# Altium schematic symbol library микросхемы аналоговые.SchLib: 54 symbols
Pins are listed as number, name and electrical type; pins without a type are passive.

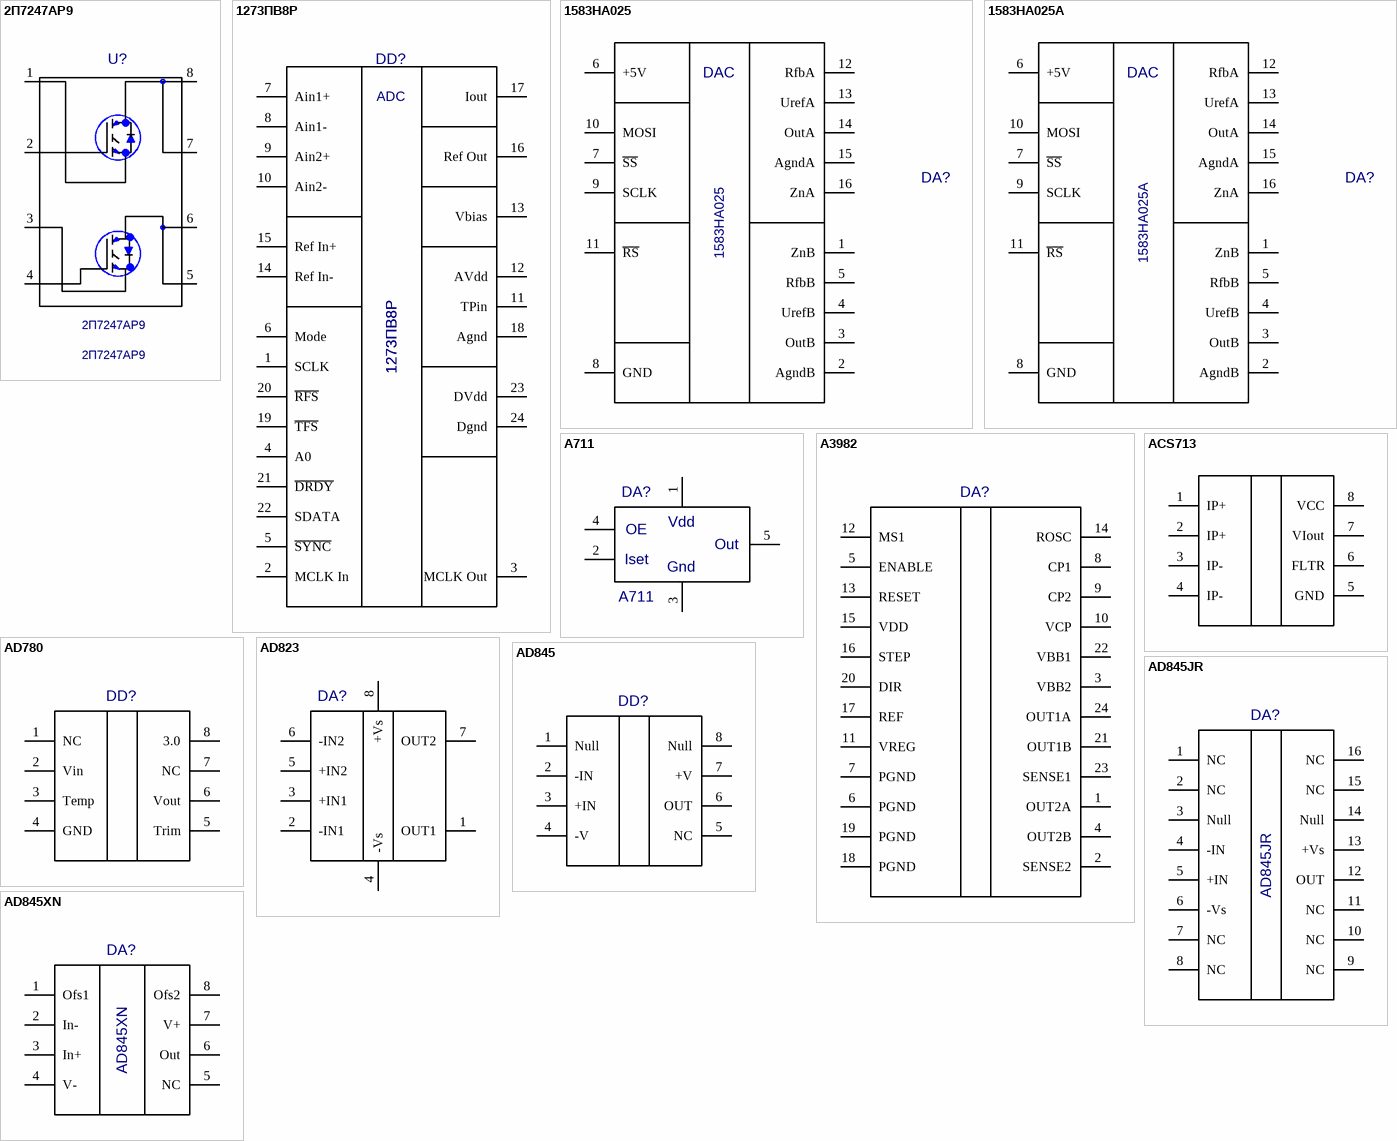
[diagram p0: symbols 2П7247АР9 to AD845XN]

## 2П7247АР9
designator U?
Value: 2П7247АР9
footprint 4320.8-А
pins: 1 S, 2 G, 3 S, 4 G, 5 D, 6 D, 7 D, 8 D

## 1273ПВ8Р
designator DD?
24-х разрядный «сигма – дельта» АЦП с однополярным (положительным) диапазоном входного аналогового сигнала. Аналог AD7710ARZ- Число разрядов  24 бит; / - Тактовая частота  0,4÷10; / - Напряжение питания цифровой части  5,0±5%; / - Положительное напряжение питания аналоговой части / (UCCA+) 5,0±5%; / - Нелинейность  -0,005÷ +0,005%; / - Напряжение смещения ucca +/2 В; Part Number: 1273ПВ8Р; Value: 1273ПВ8Р
footprint 2120.24–11
pins: 1 SCLK, 2 MCLK In, 3 MCLK Out, 4 A0, 5 ~{SYNC}, 6 Mode, 7 Ain1+, 8 Ain1-, 9 Ain2+, 10 Ain2-, 11 TPin, 12 AVdd, 13 Vbias, 14 Ref In-, 15 Ref In+, 16 Ref Out, 17 Iout, 18 Agnd, 19 ~{TFS}, 20 ~{RFS}, 21 ~{DRDY}, 22 SDATA, 23 DVdd, 24 Dgnd
text: ADC

## 1583НА025
designator DA?
Двухканальный 12‑разрядный / умножающий ЦАП / с токовым выходом / и последовательным интерфейсом / • Последовательный порт совместим со стандартами SPI / • Полная шкала выходного тока 2 мА ±20 %, при опорном напряжении UREF = 10 В / • Установка в начальную или среднюю точку шкалы при включении питания; Value: 1583НА025
footprint Н04.16-1В (CFP, 16-Leads, Body 7,80x7,40mm (max), Pitch 1,00mm, IPC Low Density)
pins: 1 ZnB, 2 AgndB, 3 OutB, 4 UrefB, 5 RfbB, 6 +5V, 7 ~{SS}, 8 GND, 9 SCLK, 10 MOSI, 11 ~{RS}, 12 RfbA, 13 UrefA, 14 OutA, 15 AgndA, 16 ZnA
text: DAC

## 1583НА025А
designator DA?
Двухканальный 12‑разрядный / умножающий ЦАП / с токовым выходом / и последовательным интерфейсом / • Последовательный порт совместим со стандартами SPI / • Полная шкала выходного тока 2 мА ±20 %, при опорном напряжении UREF = 10 В / • Установка в начальную или среднюю точку шкалы при включении питания; Value: 1583НА025А
footprint 5119.16-А (16 выв. корпус (QFN-16))
pins: 1 ZnB, 2 AgndB, 3 OutB, 4 UrefB, 5 RfbB, 6 +5V, 7 ~{SS}, 8 GND, 9 SCLK, 10 MOSI, 11 ~{RS}, 12 RfbA, 13 UrefA, 14 OutA, 15 AgndA, 16 ZnA
text: DAC

## A711
designator DA?
Value: *
footprint TO-220-5L
pins: 1, 2, 3, 4, 5
text: Vdd; OE; Out; Iset; Gnd

## A3982
designator DA?  (value not drawn)
Value: *
footprint SOL24
pins: 1 OUT2A, 2 SENSE2, 3 VBB2, 4 OUT2B, 5 ENABLE, 6 PGND, 7 PGND, 8 CP1, 9 CP2, 10 VCP, 11 VREG, 12 MS1, 13 RESET, 14 ROSC, 15 VDD, 16 STEP, 17 REF, 18 PGND, 19 PGND, 20 DIR, 21 OUT1B, 22 VBB1, 23 SENSE1, 24 OUT1A

## ACS713
designator DA?  (value not drawn)
Value: *
footprint SO8
pins: 1 IP+, 2 IP+, 3 IP-, 4 IP-, 5 GND, 6 FLTR, 7 VIout, 8 VCC

## AD780
designator DD?  (value not drawn)
Value: *
footprint SO8
pins: 1 NC, 2 Vin, 3 Temp, 4 GND, 5 Trim, 6 Vout, 7 NC, 8 3.0

## AD823
designator DA?  (value not drawn)
Value: *
footprint SO8
pins: 1 OUT1, 2 -IN1, 3 +IN1, 4 -Vs, 5 +IN2, 6 -IN2, 7 OUT2, 8 +Vs

## AD845
designator DD?  (value not drawn)
Value: *
footprint DIP8
pins: 1 Null, 2 -IN, 3 +IN, 4 -V, 5 NC, 6 OUT, 7 +V, 8 Null

## AD845JR
designator DA?
Value: *
footprint SOL16
pins: 1 NC, 2 NC, 3 Null, 4 -IN, 5 +IN, 6 -Vs, 7 NC, 8 NC, 9 NC, 10 NC, 11 NC, 12 OUT, 13 +Vs, 14 Null, 15 NC, 16 NC

## AD845XN
designator DA?
Value: {Value}
footprint DIP8
pins: 1 Ofs1, 2 In-, 3 In+, 4 V-, 5 NC, 6 Out, 7 V+, 8 Ofs2

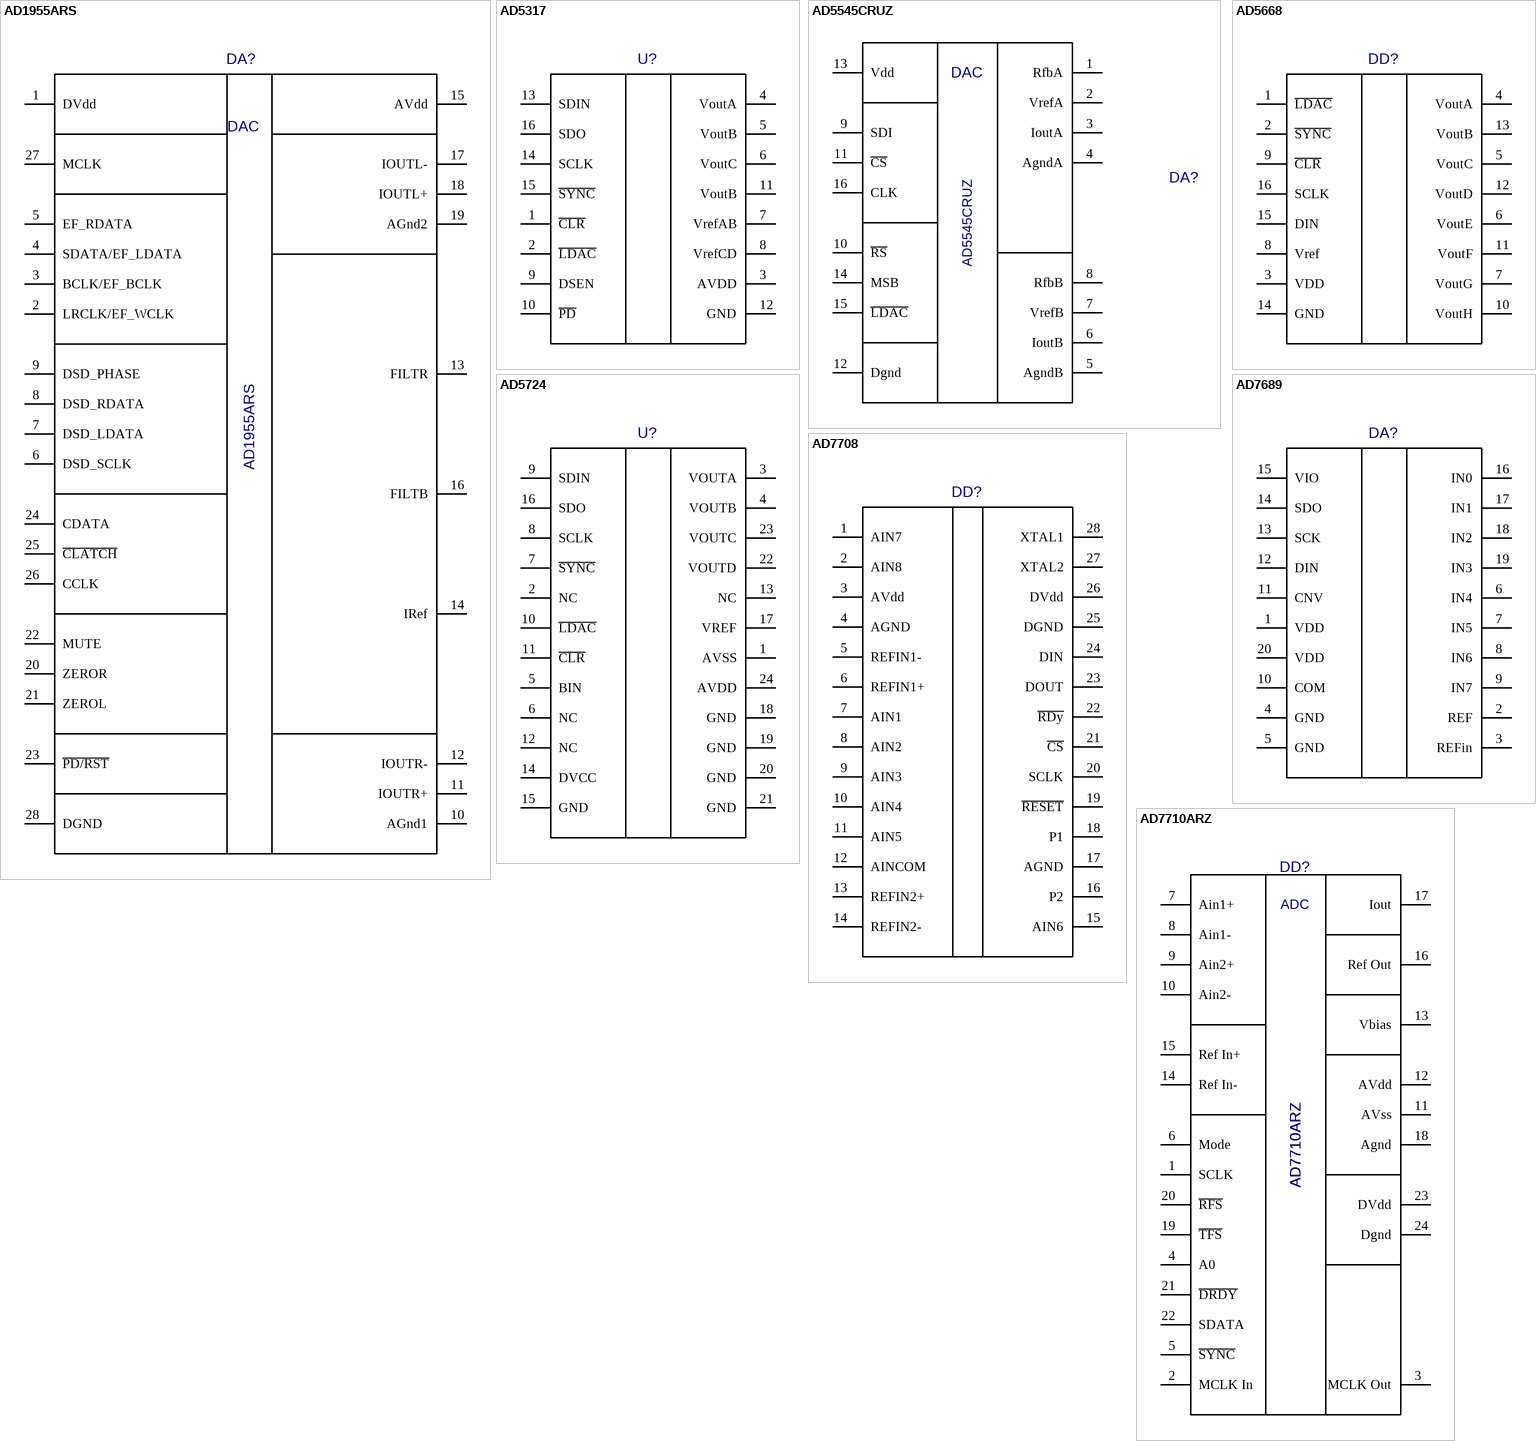
[diagram p1: symbols AD1955ARS to AD7710ARZ]

## AD1955ARS
designator DA?
Value: AD1955ARS
footprint SSOP28
pins: 1 DVdd, 2 LRCLK/EF_WCLK, 3 BCLK/EF_BCLK, 4 SDATA/EF_LDATA, 5 EF_RDATA, 6 DSD_SCLK, 7 DSD_LDATA, 8 DSD_RDATA, 9 DSD_PHASE, 10 AGnd1, 11 IOUTR+, 12 IOUTR-, 13 FILTR, 14 IRef, 15 AVdd, 16 FILTB, 17 IOUTL-, 18 IOUTL+, 19 AGnd2, 20 ZEROR, 21 ZEROL, 22 MUTE, 23 ~{PD/RST}, 24 CDATA, 25 ~{CLATCH}, 26 CCLK, 27 MCLK, 28 DGND
text: DAC

## AD5317
designator U?  (value not drawn)
Value: *
pins: 1 ~{CLR}, 2 ~{LDAC}, 3 AVDD, 4 VoutA, 5 VoutB, 6 VoutC, 7 VrefAB, 8 VrefCD, 9 DSEN, 10 ~{PD}, 11 VoutB, 12 GND, 13 SDIN, 14 SCLK, 15 ~{SYNC}, 16 SDO

## AD5545CRUZ
designator DA?
Value: AD5545CRUZ
footprint TSSOP16
pins: 1 RfbA, 2 VrefA, 3 IoutA, 4 AgndA, 5 AgndB, 6 IoutB, 7 VrefB, 8 RfbB, 9 SDI, 10 ~{RS}, 11 ~{CS}, 12 Dgnd, 13 Vdd, 14 MSB, 15 ~{LDAC}, 16 CLK
text: DAC

## AD5668
designator DD?  (value not drawn)
Value: *
footprint TSSOP16
pins: 1 ~{LDAC}, 2 ~{SYNC}, 3 VDD, 4 VoutA, 5 VoutC, 6 VoutE, 7 VoutG, 8 Vref, 9 ~{CLR}, 10 VoutH, 11 VoutF, 12 VoutD, 13 VoutB, 14 GND, 15 DIN, 16 SCLK

## AD5724
designator U?  (value not drawn)
Value: *
footprint SSOP24
pins: 1 AVSS, 2 NC, 3 VOUTA, 4 VOUTB, 5 BIN, 6 NC, 7 ~{SYNC}, 8 SCLK, 9 SDIN, 10 ~{LDAC}, 11 ~{CLR}, 12 NC, 13 NC, 14 DVCC, 15 GND, 16 SDO, 17 VREF, 18 GND, 19 GND, 20 GND, 21 GND, 22 VOUTD, 23 VOUTC, 24 AVDD

## AD7689
designator DA?  (value not drawn)
Value: *
footprint QFN20
pins: 1 VDD, 2 REF, 3 REFin, 4 GND, 5 GND, 6 IN4, 7 IN5, 8 IN6, 9 IN7, 10 COM, 11 CNV, 12 DIN, 13 SCK, 14 SDO, 15 VIO, 16 IN0, 17 IN1, 18 IN2, 19 IN3, 20 VDD, 21 hidden

## AD7708
designator DD?  (value not drawn)
Value: *
footprint SOL28
pins: 1 AIN7, 2 AIN8, 3 AVdd, 4 AGND, 5 REFIN1-, 6 REFIN1+, 7 AIN1, 8 AIN2, 9 AIN3, 10 AIN4, 11 AIN5, 12 AINCOM, 13 REFIN2+, 14 REFIN2-, 15 AIN6, 16 P2, 17 AGND, 18 P1, 19 ~{RESET}, 20 SCLK, 21 ~{CS}, 22 ~{RDy}, 23 DOUT, 24 DIN, 25 DGND, 26 DVdd, 27 XTAL2, 28 XTAL1

## AD7710ARZ
designator DD?
Charge Balancing ADC / 24 Bits, No Missing Codes / 0.0015% Nonlinearity / 2-Channel Programmable Gain Front End / Gains from 1 to 128 / Differential Inputs; Part Number: AD7710ARZ; Value: AD7710ARZ
footprint SOL24
pins: 1 SCLK, 2 MCLK In, 3 MCLK Out, 4 A0, 5 ~{SYNC}, 6 Mode, 7 Ain1+, 8 Ain1-, 9 Ain2+, 10 Ain2-, 11 AVss, 12 AVdd, 13 Vbias, 14 Ref In-, 15 Ref In+, 16 Ref Out, 17 Iout, 18 Agnd, 19 ~{TFS}, 20 ~{RFS}, 21 ~{DRDY}, 22 SDATA, 23 DVdd, 24 Dgnd
text: ADC

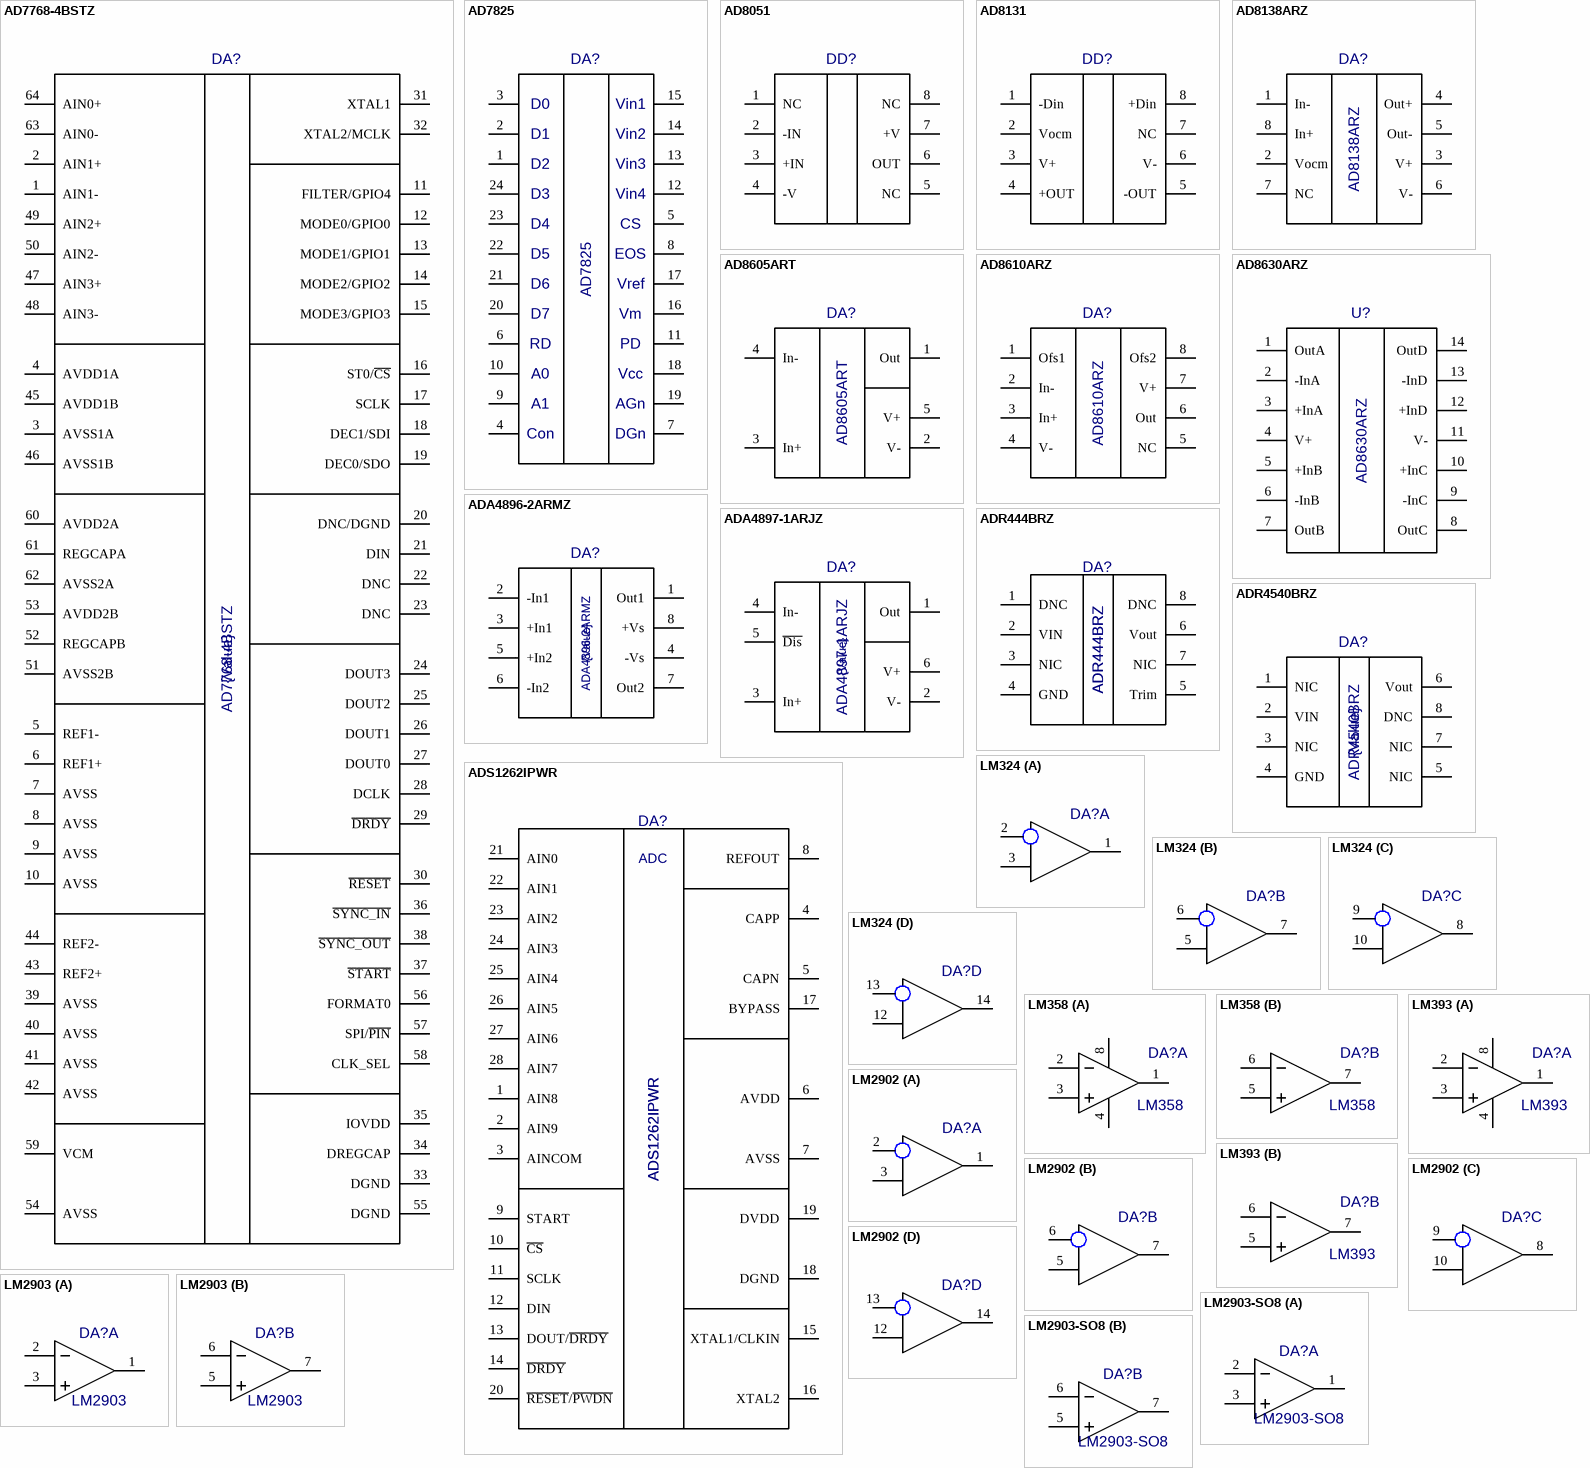
[diagram p2: symbols AD7768-4BSTZ to LM2903-SO8]

## AD7768-4BSTZ
designator DA?  value {Value}
footprint LQFP64
pins: 1 AIN1-, 2 AIN1+, 3 AVSS1A, 4 AVDD1A, 5 REF1-, 6 REF1+, 7 AVSS, 8 AVSS, 9 AVSS, 10 AVSS, 11 FILTER/GPIO4, 12 MODE0/GPIO0, 13 MODE1/GPIO1, 14 MODE2/GPIO2, 15 MODE3/GPIO3, 16 ST0/~{CS}, 17 SCLK, 18 DEC1/SDI, 19 DEC0/SDO, 20 DNC/DGND, 21 DIN, 22 DNC, 23 DNC, 24 DOUT3, 25 DOUT2, 26 DOUT1, 27 DOUT0, 28 DCLK, 29 ~{DRDY}, 30 ~{RESET}, 31 XTAL1, 32 XTAL2/MCLK, 33 DGND, 34 DREGCAP, 35 IOVDD, 36 ~{SYNC_IN}, 37 ~{START}, 38 ~{SYNC_OUT}, 39 AVSS, 40 AVSS, 41 AVSS, 42 AVSS, 43 REF2+, 44 REF2-, 45 AVDD1B, 46 AVSS1B, 47 AIN3+, 48 AIN3-, 49 AIN2+, 50 AIN2-, 51 AVSS2B, 52 REGCAPB, 53 AVDD2B, 54 AVSS, 55 DGND, 56 FORMAT0, 57 SPI/~{PIN}, 58 CLK_SEL, 59 VCM, 60 AVDD2A, 61 REGCAPA, 62 AVSS2A, 63 AIN0-, 64 AIN0+

## AD7825
designator DA?
Value: *
footprint DIP24
pins: 1 D2, 2 D1, 3 D0, 4 CON, 5 CS, 6 RD, 7 DGND (power), 8 EOS, 9 A1, 10 A0, 11 PD, 12 VIN4, 13 VIN3, 14 VIN2, 15 VIN1, 16 VMID, 17 VREF, 18 +5V (power), 19 AGND (power), 20 D7, 21 D6, 22 D5, 23 D4, 24 D3
text: Vin1; Vin2; Vin3; Vin4; Vref; Vm; Vcc; AGn; Con; DGn

## AD8051
designator DD?  (value not drawn)
Value: *
footprint SO8
pins: 1 NC, 2 -IN, 3 +IN, 4 -V, 5 NC, 6 OUT, 7 +V, 8 NC

## AD8131
designator DD?  (value not drawn)
Value: *
footprint SO8
pins: 1 -Din, 2 Vocm, 3 V+, 4 +OUT, 5 -OUT, 6 V-, 7 NC, 8 +Din

## AD8138ARZ
designator DA?
Value: *
footprint SO8
pins: 1 In-, 2 Vocm, 3 V+, 4 Out+, 5 Out-, 6 V-, 7 NC, 8 In+

## AD8605ART
designator DA?
Value: *
footprint SOT23-5
pins: 1 Out, 2 V-, 3 In+, 4 In-, 5 V+

## AD8610ARZ
designator DA?
Value: *
footprint SO8
pins: 1 Ofs1, 2 In-, 3 In+, 4 V-, 5 NC, 6 Out, 7 V+, 8 Ofs2

## AD8630ARZ
designator U?
Value: *
pins: 1 OutA, 2 -InA, 3 +InA, 4 V+, 5 +InB, 6 -InB, 7 OutB, 8 OutC, 9 -InC, 10 +InC, 11 V-, 12 +InD, 13 -InD, 14 OutD

## ADA4896-2ARMZ
designator DA?  value {Value}
footprint MSOP-8
pins: 1 Out1, 2 -In1, 3 +In1, 4 -Vs, 5 +In2, 6 -In2, 7 Out2, 8 +Vs

## ADA4897-1ARJZ
designator DA?  value {Value}
footprint SOT23-6
pins: 1 Out, 2 V-, 3 In+, 4 In-, 5 ~{Dis}, 6 V+

## ADR444BRZ
designator DA?
Ultralow noise (0.1 Hz to 10 Hz) / ADR440: 1 µV p-p / ADR441: 1.2 µV p-p / ADR443: 1.4 µV p-p / ADR444: 1.8 µV p-p / ADR445: 2.25 µV p-p / Superb temperature coefficient / A grade: 10 ppm/°C / B grade: 3 ppm/°C / Low dropout operation (supply voltage headroom): 500 mV / Input range: (VOUT + 500 mV) to 18 V / High output source and sink current / +10 mA and −5 mA, respectively / Wide temperature range: −40°C to +125°C; Part Number: ADR444BRZ; Value: ADR444BRZ
footprint SO8
pins: 1 DNC, 2 VIN, 3 NIC, 4 GND, 5 Trim, 6 Vout, 7 NIC, 8 DNC

## ADR4540BRZ
designator DA?  value {Value}
footprint SO8
pins: 1 NIC, 2 VIN, 3 NIC, 4 GND, 5 NIC, 6 Vout, 7 NIC, 8 DNC

## ADS1262IPWR
designator DA?
32-bit, ΔΣ ADC / • Auxiliary 24-bit, ΔΣ ADC (ADS1263) / • Data rates: 2.5 SPS to 38400 SPS / • Differential input, CMOS PGA / • 11 multifunction analog inputs / • High-accuracy architecture: / – Offset drift: 1 nV/°C / – Gain drift: 0.5 ppm/°C / – Noise: 7 nVRMS (2.5 SPS, gain = 32) / – Linearity: 3 ppm / • 2.5-V internal voltage reference: / – Temperature drift: 2 ppm/°C / • 50-Hz and 60-Hz rejection / • Single-cycle settled conversions / • Dual sensor excitation current sources / • Internal fault monitors / • Internal ADC test signal / • 8 general-purpose inputs/outputs; Part Number: ADS1262IPWR; Value: ADS1262IPWR
footprint TSSOP-28 (TSOP, 28-Leads, Body 9,70x4,40mm, Pitch 0,65mm, IPC Low Density)
pins: 1 AIN8, 2 AIN9, 3 AINCOM, 4 CAPP, 5 CAPN, 6 AVDD, 7 AVSS, 8 REFOUT, 9 START, 10 ~{CS}, 11 SCLK, 12 DIN, 13 DOUT/~{DRDY}, 14 ~{DRDY}, 15 XTAL1/CLKIN, 16 XTAL2, 17 BYPASS, 18 DGND, 19 DVDD, 20 ~{RESET}/~{PWDN}, 21 AIN0, 22 AIN1, 23 AIN2, 24 AIN3, 25 AIN4, 26 AIN5, 27 AIN6, 28 AIN7
text: ADC

## LM324
designator DA?  (value not drawn)
Value: *
footprint DIP14
pins on every part: 4 +9V (power) hidden, 11 -9V (power) hidden
part A pins: 1 OUT, 2 IN-, 3 IN+
part B pins: 5 IN+, 6 IN-, 7 OUT
part C pins: 8 OUT, 9 IN-, 10 IN+
part D pins: 12 IN+, 13 IN-, 14 OUT

## LM358
designator DA?
Value: *
footprint SO8
part A pins: 1 OUT, 2 IN-, 3 IN+, 4 GND, 8 VCC
part B pins: 5 IN+, 6 IN-, 7 OUT

## LM393
designator DA?
Value: *
footprint DIP8
part A pins: 1 OUT, 2 IN-, 3 IN+, 4, 8
part B pins: 5 IN+, 6 IN-, 7 OUT

## LM2902
designator DA?  (value not drawn)
Value: *
footprint DIP14
pins on every part: 4 +12V (power) hidden, 11 -12V (power) hidden
part A pins: 1 OUT, 2 IN-, 3 IN+
part B pins: 5 IN+, 6 IN-, 7 OUT
part C pins: 8 OUT, 9 IN-, 10 IN+
part D pins: 12 IN+, 13 IN-, 14 OUT

## LM2903
designator DA?
Value: *
footprint DIP8
pins on every part: 4 U- (power) hidden, 8 U+ (power) hidden
part A pins: 1 OUT, 2 IN-, 3 IN+
part B pins: 5 IN+, 6 IN-, 7 OUT

## LM2903-SO8
designator DA?
Value: *
footprint SO8
pins on every part: 4 GND (power) hidden, 8 +5V (power) hidden
part A pins: 1 OUT, 2 IN-, 3 IN+
part B pins: 5 IN+, 6 IN-, 7 OUT

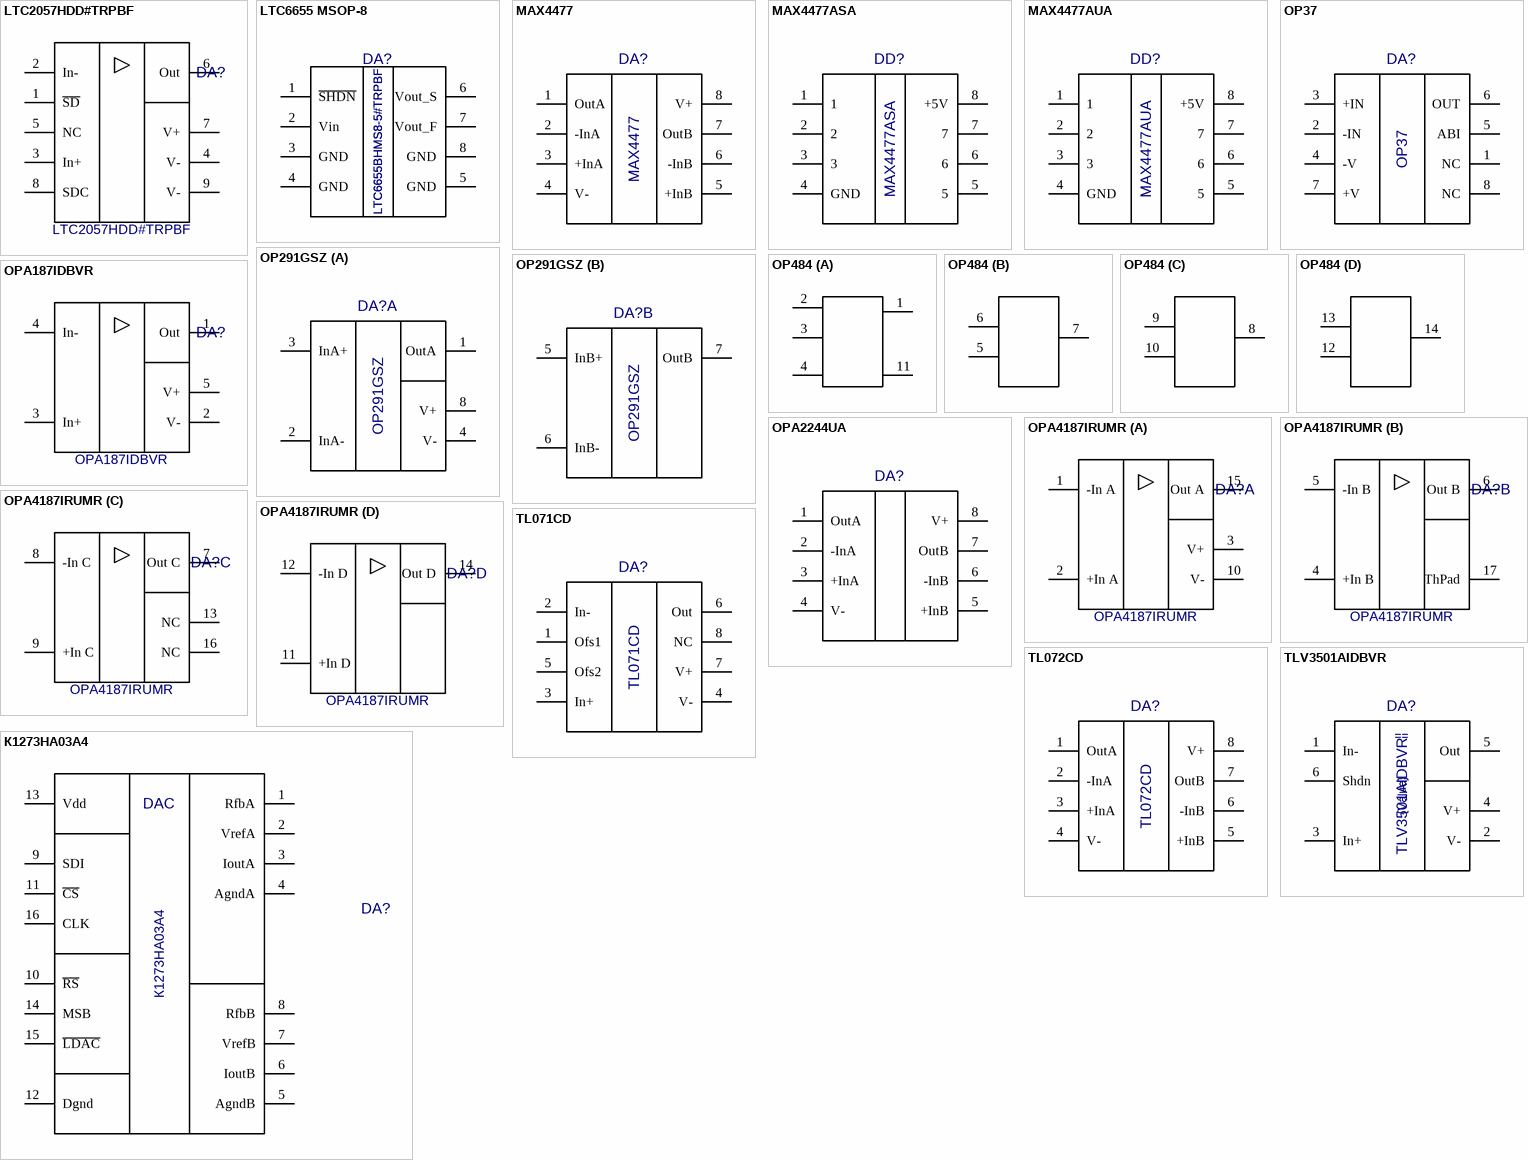
[diagram p3: symbols LTC2057HDD#TRPBF to К1273НА03А4]

## LTC2057HDD#TRPBF
designator DA?
- Supply Voltage Range / - 4.75V to 36V (LTC2057) / - 4.75V to 60V (LTC2057HV) / - Offset Voltage: 4μV (Maximum) / - Offset Voltage Drift: 0.015μV/°C / (Maximum, –40°C to 125°C) / - Input Noise Voltage / - 200nVP-P, DC to 10Hz (Typ) / - 11nV/√Hz, 1kHz (Typ) / - Input Common Mode Range: V– – 0.1V to V+ – 1.5V / - Rail-to-Rail Output / - Unity Gain Stable / - Gain Bandwidth Product: 1.5MHz (Typ) / - Slew Rate: 0.45V/μs (Typ) / - AVOL: 150dB (Typ) / - PSRR: 160dB (Typ) / - CMRR: 150dB (Typ) / - Shutdown Mode; Value: LTC2057HDD#TRPBF
footprint DFN-8 (DD8 Package  8-Lead Plastic DFN (3mm ? 3mm)  (Reference LTC DWG # 05-08-1698 Rev C))
pins: 1 ~{SD}, 2 In-, 3 In+, 4 V-, 5 NC, 6 Out, 7 V+, 8 SDC, 9 V-

## LTC6655 MSOP-8
designator DA?, comment LTC6655BHMS8-5#TRPBF
0.25ppmP-P (0.1Hz to 10Hz) 625nVP-P for the / LTC6655-2.5 / n 0.21ppmRMS (10Hz to 1kHz) for the LTC6655LN / CNR = 100µF / n Low Drift: 2ppm/°C Max / n High Accuracy: ±0.025% Max / n No Humidity Sensitivity (LS8 Package) / n Thermal Hysteresis (LS8): 30ppm (–40°C to 85°C) / n Long-Term Drift (LS8): 20ppm/√kHr / n 100% Tested at –40°C, 25°C and 125°C / n Load Regulation: <10ppm/mA / n Sinks and Sources Current: ±5mA / n Low Dropout: 500mV / n Maximum Supply Voltage: 13.2V / n Low Power Shutdown: <20µA Max / n Available Output Voltages: 1.25V, 2.048V, 2.5V, 3V, / 3.3V, 4.096V, 5V / n Available in an 8-Lead MSOP and High Stability / Hermetic 5mm × 5mm LS8 Packages; Part Number: LTC6655BHMS8-5#TRPBF; Value: LTC6655BHMS8-5#TRPBF
footprint MSOP-8 (MSOP-8 3x3 case body IPC)
pins: 1 ~{SHDN}, 2 Vin, 3 GND, 4 GND, 5 GND, 6 Vout_S, 7 Vout_F, 8 GND

## MAX4477
designator DA?
Value: *
footprint SO8
pins: 1 OutA, 2 -InA, 3 +InA, 4 V-, 5 +InB, 6 -InB, 7 OutB, 8 V+

## MAX4477ASA
designator DD?
Value: *
footprint SO8
pins: 1, 2, 3, 4 GND, 5, 6, 7, 8 +5V

## MAX4477AUA
designator DD?
Value: *
footprint USOP8
pins: 1, 2, 3, 4 GND, 5, 6, 7, 8 +5V

## OP37
designator DA?
Value: *
footprint SO8
pins: 1 NC, 2 -IN, 3 +IN, 4 -V, 5 ABI, 6 OUT, 7 +V, 8 NC

## OP291GSZ
designator DA?
Value: OP291GSZ
footprint SO8
part A pins: 1 OutA, 2 InA-, 3 InA+, 4 V-, 8 V+
part B pins: 5 InB+, 6 InB-, 7 OutB

## OP484
designator DA?  (value not drawn)
Value: *
footprint SO14
part A pins: 1 A, 2 B, 3 C, 4 D, 11 E
part B pins: 5 B, 6 A, 7 C
part C pins: 8 C, 9 A, 10 B
part D pins: 12 B, 13 A, 14 C

## OPA187IDBVR
designator DA?
• Low offset voltage: 10 µV (maximum) / • Zero drift: 0.001 µV/°C / • Low noise: 15 nV/√Hz / • PSRR: 160 dB / • CMRR: 140 dB / • AOL: 160 dB / • Quiescent Current: 100 µA / • Wide supply voltage: ±2.25 V to ±18 V / • Rail-to-rail output operation; Value: OPA187IDBVR
footprint SOT23-5
pins: 1 Out, 2 V-, 3 In+, 4 In-, 5 V+

## OPA2244UA
designator DA?  (value not drawn)
Value: *
footprint SO8
pins: 1 OutA, 2 -InA, 3 +InA, 4 V-, 5 +InB, 6 -InB, 7 OutB, 8 V+

## OPA4187IRUMR
designator DA?
• Low offset voltage: 10 µV (maximum) / • Zero drift: 0.001 µV/°C / • Low noise: 15 nV/√Hz / • PSRR: 160 dB / • CMRR: 140 dB / • AOL: 160 dB / • Quiescent Current: 100 µA / • Wide supply voltage: ±2.25 V to ±18 V / • Rail-to-rail output operation; Value: OPA4187IRUMR
footprint WQFN-16 (QFN, 16-Leads, Body 4,00x4,00mm, Pitch 0,65mm, Thermal Pad 2,70x2,70mm, IPC Medium Density)
part A pins: 1 -In A, 2 +In A, 3 V+, 10 V-, 15 Out A
part B pins: 4 +In B, 5 -In B, 6 Out B, 17 ThPad
part C pins: 7 Out C, 8 -In C, 9 +In C, 13 NC, 16 NC
part D pins: 11 +In D, 12 -In D, 14 Out D

## TL071CD
designator DA?
Value: *
footprint SO8
pins: 1 Ofs1, 2 In-, 3 In+, 4 V-, 5 Ofs2, 6 Out, 7 V+, 8 NC

## TL072CD
designator DA?
Value: *
footprint SO8
pins: 1 OutA, 2 -InA, 3 +InA, 4 V-, 5 +InB, 6 -InB, 7 OutB, 8 V+

## TLV3501AIDBVR
designator DA?  value {Value}
footprint SOT23-6
pins: 1 In-, 2 V-, 3 In+, 4 V+, 5 Out, 6 Shdn

## К1273НА03А4
designator DA?
Аналог AD5545. Двухканальный 16‑разрядный / умножающий ЦАП / с токовым выходом / и последовательным интерфейсом / • Последовательный порт совместим со стандартами SPI / • Полная шкала выходного тока 2 мА ±20 %, при опорном напряжении UREF = 10 В / • Установка в начальную или среднюю точку шкалы при включении питания; Value: К1273НА03А4
pins: 1 RfbA, 2 VrefA, 3 IoutA, 4 AgndA, 5 AgndB, 6 IoutB, 7 VrefB, 8 RfbB, 9 SDI, 10 ~{RS}, 11 ~{CS}, 12 Dgnd, 13 Vdd, 14 MSB, 15 ~{LDAC}, 16 CLK
text: DAC